# Altium integrated library DS2411.IntLib: 1 symbol
Pins are listed as number, name and electrical type; pins without a type are passive.

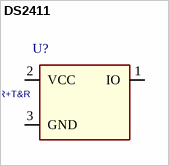
[diagram p0: symbol DS2411]

## DS2411
designator U?, comment DS2411R+T&R
PDF: http://datasheets.maximintegrated.com/en/ds/DS2411.pdf; ID: DS2411R+T&R; PRICE: 1.27000; BUY_LINK: http://www.digikey.com/product-detail/en/DS2411R%2BT%26R/DS2411R%2BCT-ND/2045729
footprint SOT23
pins: 1 IO, 2 VCC, 3 GND